# Altium footprint library Molex Microfit.PCBLIB: 196 footprints (part 5 of 13)
Each footprint in its own frame and in the unit in brackets; x right, y up, seen from the top. Pads: shape width x height; smd on the part's side, far side on the other; paste and mask are expansions set on the pad; w line width, h text height; cw(c..) or ccw(c..) is an arc to the next point about the centre after c.
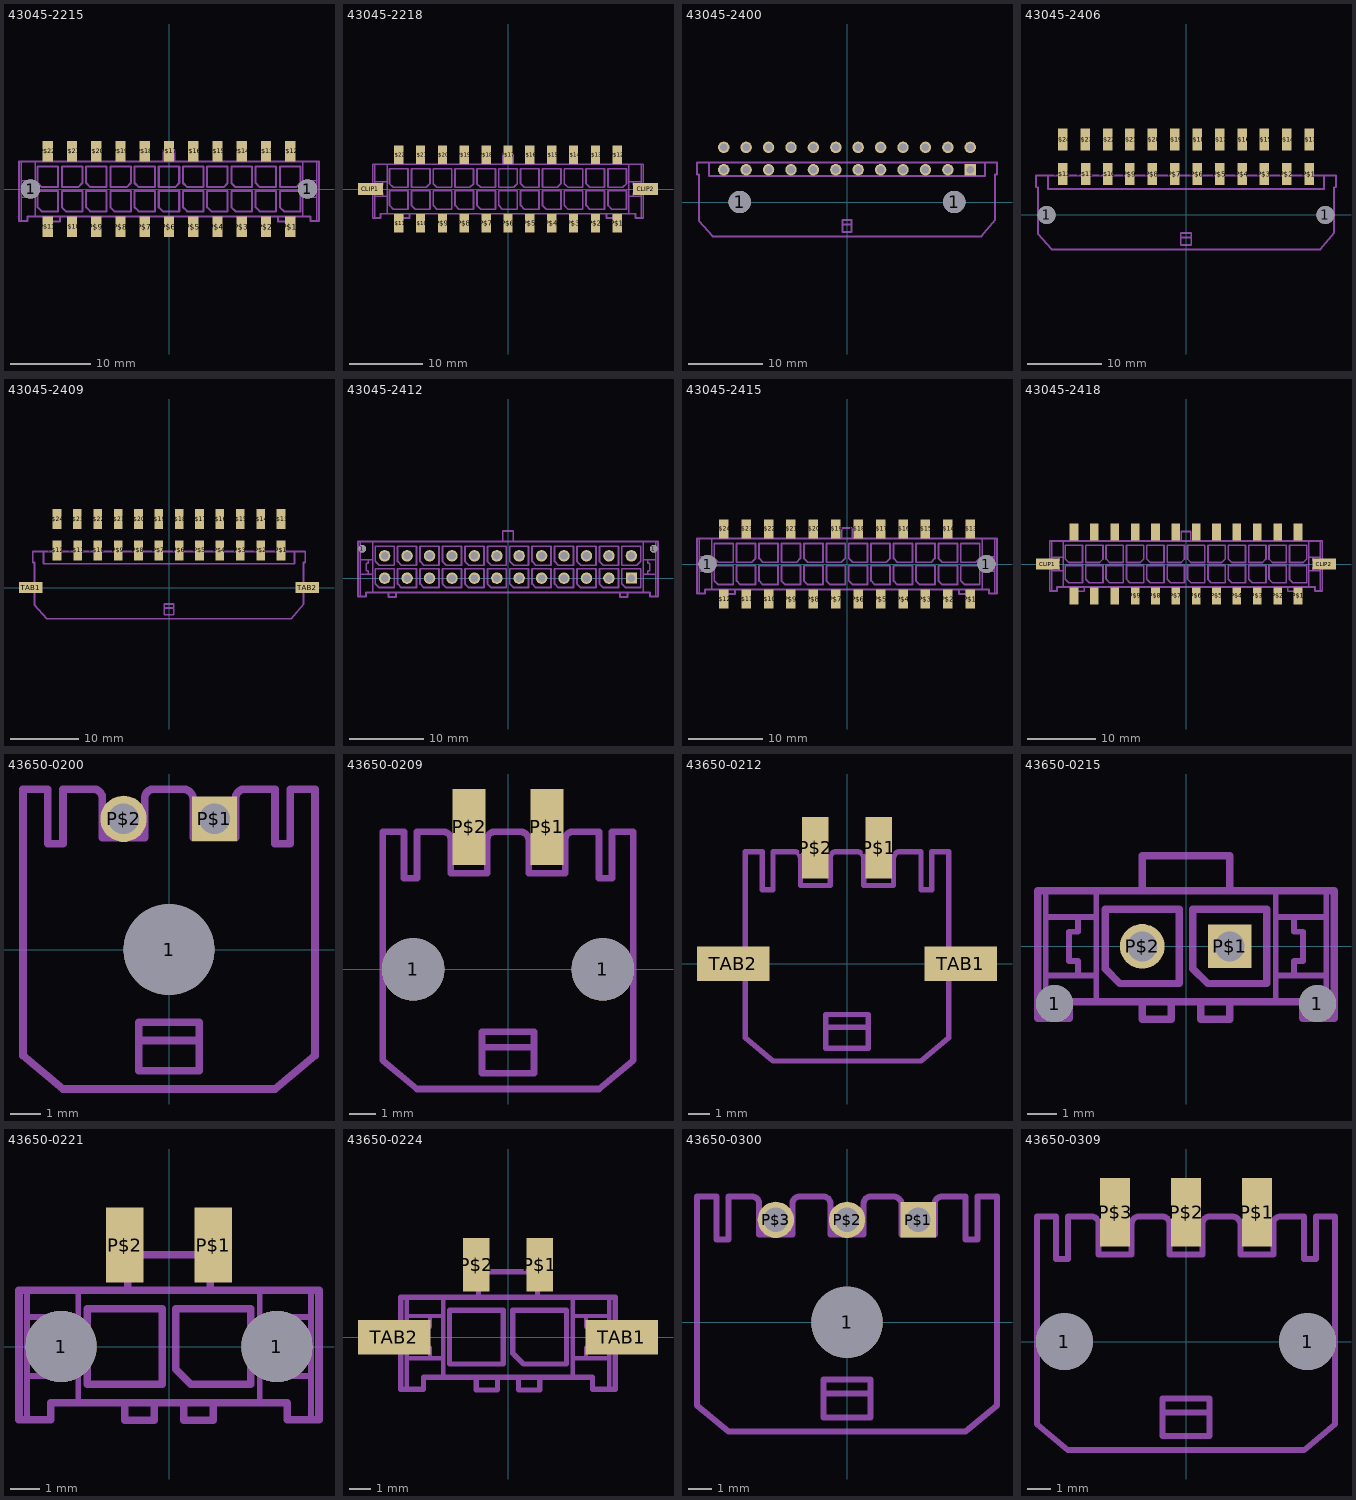
[diagram p4: the footprints below, top view; thin cyan lines are the x and y axes]

## 43045-2215 [mm]
pads (24):
  round 2.41 hole 2.41 unplated: 1(-17.15,0) 1(17.15,0)
  rect 1.27x2.54 smd: P$1(15,-4.7) P$2(12,-4.7) P$3(9,-4.7) P$4(6,-4.7) P$5(3,-4.7) P$6(0,-4.7) P$7(-3,-4.7) P$8(-6,-4.7) P$9(-9,-4.7) P$10(-12,-4.7) P$11(-15,-4.7) P$12(15,4.7) P$13(12,4.7) P$14(9,4.7) P$15(6,4.7) P$16(3,4.7) P$17(0,4.7) P$18(-3,4.7) P$19(-6,4.7) P$20(-9,4.7) P$21(-12,4.7) P$22(-15,4.7)
Mechanical 22:
  lines w0.2: -18.3,-3.97 -18.3,-1 ; -18.3,3.4 -18.3,1 ; -16.57,-3.4 -16.57,-1 ; -16.57,3.4 -16.57,1 ; 16.57,-3.4 16.57,-1 ; 16.57,3.4 16.57,1 ; 18.3,-3.97 18.3,-1 ; 18.3,3.4 18.3,1 ; -18.3,-1 -17.2,-1 ; -18.3,-1 -18.3,1 ; -18.3,1 -17.2,1 ; -17.2,-1 -17.2,-0.5 -17.5,-0.5 -17.5,0.5 -17.2,0.5 -17.2,1 ; -17.2,-1 -16.57,-1 ; -17.2,1 -16.57,1 ; -16.57,-1 -16.57,1 ; 16.57,-1 17.2,-1 ; 16.57,-1 16.57,1 ; 16.57,1 17.2,1 ; 17.2,-1 17.2,-0.5 17.5,-0.5 17.5,0.5 17.2,0.5 17.2,1 ; 17.2,-1 18.3,-1 ; 17.2,1 18.3,1 ; 18.3,-1 18.3,1
  lines w0.254: -14.5,-3.4 -14.5,-4 -13.5,-4 -13.5,-3.4 ; -14.5,-3.4 -16.57,-3.4 -17.5,-3.4 -17.5,-3.97 -18.3,-3.97 -18.575,-3.97 -18.575,3.4 -18.3,3.4 -16.57,3.4 -0.7,3.4 ; -14.5,-3.4 -13.5,-3.4 ; -13.5,-3.4 13.5,-3.4 ; -0.7,3.4 -0.7,4.8 0.7,4.8 0.7,3.4 ; -0.7,3.4 0.7,3.4 ; 0.7,3.4 16.57,3.4 18.3,3.4 18.575,3.4 18.575,-3.97 18.3,-3.97 17.5,-3.97 17.5,-3.4 16.57,-3.4 14.5,-3.4 ; 13.5,-3.4 13.5,-4 14.5,-4 14.5,-3.4 ; 13.5,-3.4 14.5,-3.4 ; -16.27,-2.262 -15.762,-2.77 -13.73,-2.77 -13.73,-0.23 -16.27,-0.23 -16.27,-2.262 ; -16.27,0.738 -15.762,0.23 -13.73,0.23 -13.73,2.77 -16.27,2.77 -16.27,0.738 ; -13.27,-2.262 -12.762,-2.77 -10.73,-2.77 -10.73,-0.23 -13.27,-0.23 -13.27,-2.262 ; -10.27,-2.262 -9.762,-2.77 -7.73,-2.77 -7.73,-0.23 -10.27,-0.23 -10.27,-2.262 ; -10.27,0.738 -9.762,0.23 -7.73,0.23 -7.73,2.77 -10.27,2.77 -10.27,0.738 ; -7.27,-2.262 -6.762,-2.77 -4.73,-2.77 -4.73,-0.23 -7.27,-0.23 -7.27,-2.262 ; -4.27,-2.262 -3.762,-2.77 -1.73,-2.77 -1.73,-0.23 -4.27,-0.23 -4.27,-2.262 ; -4.27,0.738 -3.762,0.23 -1.73,0.23 -1.73,2.77 -4.27,2.77 -4.27,0.738 ; -1.27,-2.262 -0.762,-2.77 1.27,-2.77 1.27,-0.23 -1.27,-0.23 -1.27,-2.262 ; 1.73,-2.262 2.238,-2.77 4.27,-2.77 4.27,-0.23 1.73,-0.23 1.73,-2.262 ; 1.73,0.738 2.238,0.23 4.27,0.23 4.27,2.77 1.73,2.77 1.73,0.738 ; 4.73,-2.262 5.238,-2.77 7.27,-2.77 7.27,-0.23 4.73,-0.23 4.73,-2.262 ; 7.73,-2.262 8.238,-2.77 10.27,-2.77 10.27,-0.23 7.73,-0.23 7.73,-2.262 ; 7.73,0.738 8.238,0.23 10.27,0.23 10.27,2.77 7.73,2.77 7.73,0.738 ; 10.73,-2.262 11.238,-2.77 13.27,-2.77 13.27,-0.23 10.73,-0.23 10.73,-2.262 ; 10.73,0.738 11.238,0.23 13.27,0.23 13.27,2.77 10.73,2.77 10.73,0.738 ; 13.73,-2.262 14.238,-2.77 16.27,-2.77 16.27,-0.23 13.73,-0.23 13.73,-2.262
Mechanical 23:
  lines w0.254: -13.27,0.23 -11.238,0.23 -10.73,0.738 -10.73,2.77 -13.27,2.77 -13.27,0.23 ; -7.27,0.23 -5.238,0.23 -4.73,0.738 -4.73,2.77 -7.27,2.77 -7.27,0.23 ; -1.27,0.23 0.762,0.23 1.27,0.738 1.27,2.77 -1.27,2.77 -1.27,0.23 ; 4.73,0.23 6.762,0.23 7.27,0.738 7.27,2.77 4.73,2.77 4.73,0.23 ; 13.73,0.23 15.762,0.23 16.27,0.738 16.27,2.77 13.73,2.77 13.73,0.23

## 43045-2218 [mm]
pads (24):
  rect 3.43x1.65 smd: CLIP1(-18.88,0) CLIP2(18.88,0)
  rect 1.27x2.54 smd: P$1(15,-4.7) P$2(12,-4.7) P$3(9,-4.7) P$4(6,-4.7) P$5(3,-4.7) P$6(0,-4.7) P$7(-3,-4.7) P$8(-6,-4.7) P$9(-9,-4.7) P$10(-12,-4.7) P$11(-15,-4.7) P$12(15,4.7) P$13(12,4.7) P$14(9,4.7) P$15(6,4.7) P$16(3,4.7) P$17(0,4.7) P$18(-3,4.7) P$19(-6,4.7) P$20(-9,4.7) P$21(-12,4.7) P$22(-15,4.7)
Mechanical 22:
  lines w0.2: -18.3,-3.97 -18.3,-1 ; -18.3,3.4 -18.3,1 ; -16.57,-3.4 -16.57,-1 ; -16.57,3.4 -16.57,1 ; 16.57,-3.4 16.57,-1 ; 16.57,3.4 16.57,1 ; 18.3,-3.97 18.3,-1 ; 18.3,3.4 18.3,1 ; -18.3,-1 -18.3,1 ; -18.3,-1 -17.2,-1 ; -18.3,1 -17.2,1 ; -17.2,-1 -16.57,-1 ; -17.2,-1 -17.2,-0.5 -17.5,-0.5 -17.5,0.5 -17.2,0.5 -17.2,1 ; -17.2,1 -16.57,1 ; -16.57,-1 -16.57,1 ; 16.57,-1 16.57,1 ; 16.57,-1 17.2,-1 ; 16.57,1 17.2,1 ; 17.2,-1 18.3,-1 ; 17.2,-1 17.2,-0.5 17.5,-0.5 17.5,0.5 17.2,0.5 17.2,1 ; 17.2,1 18.3,1 ; 18.3,-1 18.3,1
  lines w0.254: -14.5,-3.4 -13.5,-3.4 ; -14.5,-3.4 -16.57,-3.4 -17.5,-3.4 -17.5,-3.97 -18.3,-3.97 -18.575,-3.97 -18.575,3.4 -18.3,3.4 -16.57,3.4 -0.7,3.4 ; -14.5,-3.4 -14.5,-4 -13.5,-4 -13.5,-3.4 ; -13.5,-3.4 13.5,-3.4 ; -0.7,3.4 0.7,3.4 ; -0.7,3.4 -0.7,4.8 0.7,4.8 0.7,3.4 ; 0.7,3.4 16.57,3.4 18.3,3.4 18.575,3.4 18.575,-3.97 18.3,-3.97 17.5,-3.97 17.5,-3.4 16.57,-3.4 14.5,-3.4 ; 13.5,-3.4 14.5,-3.4 ; 13.5,-3.4 13.5,-4 14.5,-4 14.5,-3.4 ; -16.27,-2.262 -16.27,-0.23 -13.73,-0.23 -13.73,-2.77 -15.762,-2.77 -16.27,-2.262 ; -16.27,0.738 -16.27,2.77 -13.73,2.77 -13.73,0.23 -15.762,0.23 -16.27,0.738 ; -13.27,-2.262 -13.27,-0.23 -10.73,-0.23 -10.73,-2.77 -12.762,-2.77 -13.27,-2.262 ; -10.27,-2.262 -10.27,-0.23 -7.73,-0.23 -7.73,-2.77 -9.762,-2.77 -10.27,-2.262 ; -10.27,0.738 -10.27,2.77 -7.73,2.77 -7.73,0.23 -9.762,0.23 -10.27,0.738 ; -7.27,-2.262 -7.27,-0.23 -4.73,-0.23 -4.73,-2.77 -6.762,-2.77 -7.27,-2.262 ; -4.27,-2.262 -4.27,-0.23 -1.73,-0.23 -1.73,-2.77 -3.762,-2.77 -4.27,-2.262 ; -4.27,0.738 -4.27,2.77 -1.73,2.77 -1.73,0.23 -3.762,0.23 -4.27,0.738 ; -1.27,-2.262 -1.27,-0.23 1.27,-0.23 1.27,-2.77 -0.762,-2.77 -1.27,-2.262 ; 1.73,-2.262 1.73,-0.23 4.27,-0.23 4.27,-2.77 2.238,-2.77 1.73,-2.262 ; 1.73,0.738 1.73,2.77 4.27,2.77 4.27,0.23 2.238,0.23 1.73,0.738 ; 4.73,-2.262 4.73,-0.23 7.27,-0.23 7.27,-2.77 5.238,-2.77 4.73,-2.262 ; 7.73,-2.262 7.73,-0.23 10.27,-0.23 10.27,-2.77 8.238,-2.77 7.73,-2.262 ; 7.73,0.738 7.73,2.77 10.27,2.77 10.27,0.23 8.238,0.23 7.73,0.738 ; 10.73,-2.262 10.73,-0.23 13.27,-0.23 13.27,-2.77 11.238,-2.77 10.73,-2.262 ; 10.73,0.738 10.73,2.77 13.27,2.77 13.27,0.23 11.238,0.23 10.73,0.738 ; 13.73,-2.262 13.73,-0.23 16.27,-0.23 16.27,-2.77 14.238,-2.77 13.73,-2.262
Mechanical 23:
  lines w0.254: -13.27,0.23 -13.27,2.77 -10.73,2.77 -10.73,0.738 -11.238,0.23 -13.27,0.23 ; -7.27,0.23 -7.27,2.77 -4.73,2.77 -4.73,0.738 -5.238,0.23 -7.27,0.23 ; -1.27,0.23 -1.27,2.77 1.27,2.77 1.27,0.738 0.762,0.23 -1.27,0.23 ; 4.73,0.23 4.73,2.77 7.27,2.77 7.27,0.738 6.762,0.23 4.73,0.23 ; 13.73,0.23 13.73,2.77 16.27,2.77 16.27,0.738 15.762,0.23 13.73,0.23

## 43045-2400 [mm]
pads (26):
  round 3 hole 3 unplated: 1(-14.35,0) 1(14.35,0)
  rect 1.482x1.482 / inner rect 1.524x1.524 / far side rect 1.482x1.482 hole 1.02: P$1(16.5,4.32)
  round 1.53 / inner round 1.524 / far side round 1.53 hole 1.02: P$2(13.5,4.32) P$3(10.5,4.32) P$4(7.5,4.32) P$5(4.5,4.32) P$6(1.5,4.32) P$7(-1.5,4.32) P$8(-4.5,4.32) P$9(-7.5,4.32) P$10(-10.5,4.32) P$11(-13.5,4.32) P$12(-16.5,4.32) P$13(16.5,7.32) P$14(13.5,7.32) P$15(10.5,7.32) P$16(7.5,7.32) P$17(4.5,7.32) P$18(1.5,7.32) P$19(-1.5,7.32) P$20(-4.5,7.32) P$21(-7.5,7.32) P$22(-10.5,7.32) P$23(-13.5,7.32) P$24(-16.5,7.32)
Mechanical 22:
  lines w0.127: -4.83,5.31 -18.5,5.31 -4.825,5.31
  lines w0.254: -18.5,5.31 -20.08,5.31 -20.08,3.71 -19.825,3.71 -19.825,-2.5 -18,-4.6 18,-4.6 19.825,-2.4 19.825,3.71 20.08,3.71 20.08,5.31 18.5,5.31 ; -18.5,5.31 18.5,5.31 ; -18.5,5.31 -18.5,3.5 18.5,3.5 18.5,5.31 ; -0.6,-3 -0.6,-4 0.6,-4 0.6,-3 ; -0.6,-3 -0.6,-2.4 0.6,-2.4 0.6,-3 ; -0.6,-3 0.6,-3
3D body "430452400.stp": height 8.9, standoff -3.05, extent -20.075,-4.569 20.075,7.671

## 43045-2406 [mm]
pads (26):
  round 2.41 hole 2.41 unplated: 1(-18.65,0) 1(18.65,0)
  rect 1.27x2.92 smd: P$1(16.5,5.47) P$2(13.5,5.47) P$3(10.5,5.47) P$4(7.5,5.47) P$5(4.5,5.47) P$6(1.5,5.47) P$7(-1.5,5.47) P$8(-4.5,5.47) P$9(-7.5,5.47) P$10(-10.5,5.47) P$11(-13.44,5.47) P$12(-16.5,5.47) P$13(16.5,10.1) P$14(13.5,10.1) P$15(10.5,10.1) P$16(7.5,10.1) P$17(4.5,10.1) P$18(1.5,10.1) P$19(-1.5,10.1) P$20(-4.5,10.1) P$21(-7.5,10.1) P$22(-10.5,10.1) P$23(-13.5,10.1) P$24(-16.5,10.1)
Mechanical 22:
  lines w0.127: -4.83,5.31 -18.5,5.31 -4.825,5.31
  lines w0.254: -18.5,5.31 -20.08,5.31 -20.08,3.71 -19.825,3.71 -19.825,-2.5 -18,-4.6 18,-4.6 19.825,-2.4 19.825,3.71 20.08,3.71 20.08,5.31 18.5,5.31 ; -18.5,5.31 18.5,5.31 ; -18.5,5.31 -18.5,3.5 18.5,3.5 18.5,5.31 ; -0.7,-3 -0.7,-4 0.7,-4 0.7,-3 ; -0.7,-3 -0.7,-2.4 0.7,-2.4 0.7,-3 ; -0.7,-3 0.7,-3

## 43045-2409 [mm]
pads (26):
  rect 1.27x2.92 smd: P$1(16.5,5.47) P$2(13.5,5.47) P$3(10.5,5.47) P$4(7.5,5.47) P$5(4.5,5.47) P$6(1.5,5.47) P$7(-1.5,5.47) P$8(-4.5,5.47) P$9(-7.5,5.47) P$10(-10.5,5.47) P$11(-13.44,5.47) P$12(-16.5,5.47) P$13(16.5,10.1) P$14(13.5,10.1) P$15(10.5,10.1) P$16(7.5,10.1) P$17(4.5,10.1) P$18(1.5,10.1) P$19(-1.5,10.1) P$20(-4.5,10.1) P$21(-7.5,10.1) P$22(-10.5,10.1) P$23(-13.5,10.1) P$24(-16.5,10.1)
  rect 3.43x1.65 smd: TAB1(-20.38,0) TAB2(20.38,0)
Mechanical 22:
  lines w0.127: -4.83,5.31 -18.5,5.31 -4.825,5.31
  lines w0.254: -18.5,5.31 -20.08,5.31 -20.08,3.71 -19.825,3.71 -19.825,-2.5 -18,-4.6 18,-4.6 19.825,-2.4 19.825,3.71 20.08,3.71 20.08,5.31 18.5,5.31 ; -18.5,5.31 18.5,5.31 ; -18.5,5.31 -18.5,3.5 18.5,3.5 18.5,5.31 ; -0.7,-3 -0.7,-4 0.7,-4 0.7,-3 ; -0.7,-3 -0.7,-2.4 0.7,-2.4 0.7,-3 ; -0.7,-3 0.7,-3

## 43045-2412 [mm]
pads (26):
  round 1.02 hole 1.02 unplated: 1(-19.5,3.94) 1(19.5,3.94)
  rect 1.482x1.482 / inner rect 1.524x1.524 / far side rect 1.482x1.482 hole 1.02: P$1(16.5,0)
  round 1.53 / inner round 1.524 / far side round 1.53 hole 1.02: P$2(13.5,0) P$3(10.5,0) P$4(7.5,0) P$5(4.5,0) P$6(1.5,0) P$7(-1.5,0) P$8(-4.5,0) P$9(-7.5,0) P$10(-10.5,0) P$11(-13.5,0) P$12(-16.5,0) P$13(16.5,3) P$14(13.5,3) P$15(10.5,3) P$16(7.5,3) P$17(4.5,3) P$18(1.5,3) P$19(-1.5,3) P$20(-4.5,3) P$21(-7.5,3) P$22(-10.5,3) P$23(-13.5,3) P$24(-16.5,3)
Mechanical 22:
  drawing of 176 lines, arcs and shapes, not listed
Mechanical 23:
  lines w0.254: 15.23,1.73 17.262,1.73 17.77,2.238 17.77,4.27 15.23,4.27 15.23,1.73
3D body "430452412.stp": height 10.03, standoff -3.06, extent -20.075,-2.446 20.075,6.324

## 43045-2415 [mm]
pads (26):
  round 2.41 hole 2.41 unplated: 1(-18.65,0) 1(18.65,0)
  rect 1.27x2.54 smd: P$1(16.5,-4.7) P$2(13.5,-4.7) P$3(10.5,-4.7) P$4(7.5,-4.7) P$5(4.5,-4.7) P$6(1.5,-4.7) P$7(-1.5,-4.7) P$8(-4.5,-4.7) P$9(-7.5,-4.7) P$10(-10.5,-4.7) P$11(-13.5,-4.7) P$12(-16.5,-4.7) P$13(16.5,4.7) P$14(13.5,4.7) P$15(10.5,4.7) P$16(7.5,4.7) P$17(4.5,4.7) P$18(1.5,4.7) P$19(-1.5,4.7) P$20(-4.5,4.7) P$21(-7.5,4.7) P$22(-10.5,4.7) P$23(-13.5,4.7) P$24(-16.5,4.7)
Mechanical 22:
  drawing of 151 lines, arcs and shapes, not listed
Mechanical 23:
  lines w0.254: -14.77,0.23 -12.738,0.23 -12.23,0.738 -12.23,2.77 -14.77,2.77 -14.77,0.23 ; -8.77,0.23 -6.738,0.23 -6.23,0.738 -6.23,2.77 -8.77,2.77 -8.77,0.23 ; -2.77,0.23 -0.738,0.23 -0.23,0.738 -0.23,2.77 -2.77,2.77 -2.77,0.23 ; 3.23,0.23 5.262,0.23 5.77,0.738 5.77,2.77 3.23,2.77 3.23,0.23 ; 9.23,0.23 11.262,0.23 11.77,0.738 11.77,2.77 9.23,2.77 9.23,0.23 ; 15.23,0.23 17.262,0.23 17.77,0.738 17.77,2.77 15.23,2.77 15.23,0.23

## 43045-2418 [mm]
pads (26):
  rect 3.43x1.65 smd: CLIP1(-20.38,0) CLIP2(20.38,0)
  rect 1.27x2.54 smd: P$1(16.5,-4.7) P$2(13.5,-4.7) P$3(10.5,-4.7) P$4(7.5,-4.7) P$5(4.5,-4.7) P$6(1.5,-4.7) P$7(-1.5,-4.7) P$8(-4.5,-4.7) P$9(-7.5,-4.7) P$10(-10.5,-4.7) P$11(-13.5,-4.7) P$12(-16.5,-4.7) P$13(16.5,4.7) P$14(13.5,4.7) P$15(10.5,4.7) P$16(7.5,4.7) P$17(4.5,4.7) P$18(1.5,4.7) P$19(-1.5,4.7) P$20(-4.5,4.7) P$21(-7.5,4.7) P$22(-10.5,4.7) P$23(-13.5,4.7) P$24(-16.5,4.7)
Mechanical 22:
  drawing of 151 lines, arcs and shapes, not listed
Mechanical 23:
  lines w0.254: -14.77,0.23 -12.738,0.23 -12.23,0.738 -12.23,2.77 -14.77,2.77 -14.77,0.23 ; -8.77,0.23 -6.738,0.23 -6.23,0.738 -6.23,2.77 -8.77,2.77 -8.77,0.23 ; -2.77,0.23 -0.738,0.23 -0.23,0.738 -0.23,2.77 -2.77,2.77 -2.77,0.23 ; 3.23,0.23 5.262,0.23 5.77,0.738 5.77,2.77 3.23,2.77 3.23,0.23 ; 9.23,0.23 11.262,0.23 11.77,0.738 11.77,2.77 9.23,2.77 9.23,0.23 ; 15.23,0.23 17.262,0.23 17.77,0.738 17.77,2.77 15.23,2.77 15.23,0.23

## 43650-0200 [mm]
pads (3):
  round 3 hole 3 unplated: 1(0,0)
  rect 1.482x1.482 / inner rect 1.524x1.524 / far side rect 1.482x1.482 hole 1.02: P$1(1.5,4.32)
  round 1.53 / inner round 1.524 / far side round 1.53 hole 1.02: P$2(-1.5,4.32)
Mechanical 22:
  lines w0.254: -1,-3 -1,-4 1,-4 1,-3 ; -1,-3 -1,-2.4 1,-2.4 1,-3 ; -1,-3 1,-3 ; -4.82,-3.5 -4.82,5.3 -4,5.3 -4,3.5 -3.5,3.5 -3.5,5.3 -2.5,5.3 cw(c-2.5,5) -2.2,5 -2.2,3.7 -0.8,3.7 -0.8,5 cw(c-0.5,5) -0.5,5.3 0.5,5.3 cw(c0.45,4.95) 0.8,5 0.8,3.7 2.2,3.7 2.2,5 cw(c2.5,5) 2.5,5.3 3.5,5.3 3.5,3.5 4,3.5 4,5.3 4.82,5.3 4.82,-3.5 3.5,-4.6 -3.5,-4.6 -4.82,-3.5
3D body "436500200.stp": height 5.68, standoff -3.23, extent -4.825,-4.569 4.825,5.331

## 43650-0209 [mm]
pads (4):
  round 2.41 hole 2.41 unplated: 1(-3.65,0) 1(3.65,0)
  rect 1.27x2.92 smd: P$1(1.5,5.48) P$2(-1.5,5.48)
Mechanical 22:
  lines w0.254: -1,-3 -1,-4 1,-4 1,-3 ; -1,-3 -1,-2.4 1,-2.4 1,-3 ; -1,-3 1,-3 ; -4.82,-3.5 -4.82,5.3 -4,5.3 -4,3.5 -3.5,3.5 -3.5,5.3 -2.5,5.3 cw(c-2.5,5) -2.2,5 -2.2,3.7 -0.8,3.7 -0.8,5 cw(c-0.5,5) -0.5,5.3 0.5,5.3 cw(c0.45,4.95) 0.8,5 0.8,3.7 2.2,3.7 2.2,5 cw(c2.5,5) 2.5,5.3 3.5,5.3 3.5,3.5 4,3.5 4,5.3 4.82,5.3 4.82,-3.5 3.5,-4.6 -3.5,-4.6 -4.82,-3.5

## 43650-0212 [mm]
pads (4):
  rect 1.27x2.92 smd: P$1(1.5,5.48) P$2(-1.5,5.48)
  rect 3.43x1.65 smd: TAB1(5.38,0) TAB2(-5.38,0)
Mechanical 22:
  lines w0.254: -1,-3 1,-3 ; -1,-3 -1,-2.4 1,-2.4 1,-3 ; -1,-3 -1,-4 1,-4 1,-3 ; -4.82,-3.5 -3.5,-4.6 3.5,-4.6 4.82,-3.5 4.82,5.3 4,5.3 4,3.5 3.5,3.5 3.5,5.3 2.5,5.3 ccw(c2.5,5) 2.2,5 2.2,3.7 0.8,3.7 0.8,5 ccw(c0.45,4.95) 0.5,5.3 -0.5,5.3 ccw(c-0.5,5) -0.8,5 -0.8,3.7 -2.2,3.7 -2.2,5 ccw(c-2.5,5) -2.5,5.3 -3.5,5.3 -3.5,3.5 -4,3.5 -4,5.3 -4.82,5.3 -4.82,-3.5

## 43650-0215 [mm]
pads (4):
  round 1.27 hole 1.27 unplated: 1(-4.5,-1.96) 1(4.5,-1.96)
  rect 1.482x1.482 / inner rect 1.524x1.524 / far side rect 1.482x1.482 hole 1.02: P$1(1.5,0)
  round 1.53 / inner round 1.524 / far side round 1.53 hole 1.02: P$2(-1.5,0)
Mechanical 22:
  lines w0.2: -4.8,-2.47 -4.8,-1 ; -4.8,1.9 -4.8,1 ; -3.07,-1.9 -3.07,-1 ; -3.07,1.9 -3.07,1 ; 3.07,-1.9 3.07,-1 ; 3.07,1.9 3.07,1 ; 4.8,-2.47 4.8,-1 ; 4.8,1.9 4.8,1 ; -4.8,-1 -4.8,1 ; -4.8,-1 -3.7,-1 ; -4.8,1 -3.7,1 ; -3.7,-1 -3.07,-1 ; -3.7,-1 -3.7,-0.5 -4,-0.5 -4,0.5 -3.7,0.5 -3.7,1 ; -3.7,1 -3.07,1 ; -3.07,-1 -3.07,1 ; 3.07,-1 3.07,1 ; 3.07,-1 3.7,-1 ; 3.07,1 3.7,1 ; 3.7,-1 4.8,-1 ; 3.7,-1 3.7,-0.5 4,-0.5 4,0.5 3.7,0.5 3.7,1 ; 3.7,1 4.8,1 ; 4.8,-1 4.8,1
  lines w0.254: -1.5,-1.9 -0.5,-1.9 ; -1.5,-1.9 -3.07,-1.9 -4,-1.9 -4,-2.47 -4.8,-2.47 -5.075,-2.47 -5.075,1.9 -4.8,1.9 -3.07,1.9 -1.5,1.9 ; -1.5,-1.9 -1.5,-2.5 -0.5,-2.5 -0.5,-1.9 ; -1.5,1.9 1.5,1.9 ; -1.5,1.9 -1.5,3.1 1.5,3.1 1.5,1.9 ; -0.5,-1.9 0.5,-1.9 ; 0.5,-1.9 1.5,-1.9 ; 0.5,-1.9 0.5,-2.5 1.5,-2.5 1.5,-1.9 ; 1.5,-1.9 3.07,-1.9 4,-1.9 4,-2.47 4.8,-2.47 5.075,-2.47 5.075,1.9 4.8,1.9 3.07,1.9 1.5,1.9 ; -2.77,-0.762 -2.77,1.27 -0.23,1.27 -0.23,-1.27 -2.262,-1.27 -2.77,-0.762 ; 0.23,-0.762 0.23,1.27 2.77,1.27 2.77,-1.27 0.738,-1.27 0.23,-0.762
3D body "436500215.stp": height 10.03, standoff -3.05, extent -4.825,-2.47 4.825,3.135

## 43650-0221 [mm]
pads (4):
  round 2.41 hole 2.41 unplated: 1(-3.65,0) 1(3.65,0)
  rect 1.27x2.54 smd: P$1(1.5,3.43) P$2(-1.5,3.43)
Mechanical 22:
  lines w0.2: -4.8,-2.47 -4.8,-1 ; -4.8,1.9 -4.8,1 ; -3.07,-1.9 -3.07,-1 ; -3.07,1.9 -3.07,1 ; 3.07,-1.9 3.07,-1 ; 3.07,1.9 3.07,1 ; 4.8,-2.47 4.8,-1 ; 4.8,1.9 4.8,1 ; -4.8,-1 -3.7,-1 ; -4.8,-1 -4.8,1 ; -4.8,1 -3.7,1 ; -3.7,-1 -3.7,-0.5 -4,-0.5 -4,0.5 -3.7,0.5 -3.7,1 ; -3.7,-1 -3.07,-1 ; -3.7,1 -3.07,1 ; -3.07,-1 -3.07,1 ; 3.07,-1 3.7,-1 ; 3.07,-1 3.07,1 ; 3.07,1 3.7,1 ; 3.7,-1 3.7,-0.5 4,-0.5 4,0.5 3.7,0.5 3.7,1 ; 3.7,-1 4.8,-1 ; 3.7,1 4.8,1 ; 4.8,-1 4.8,1
  lines w0.254: -1.5,-1.9 -1.5,-2.5 -0.5,-2.5 -0.5,-1.9 ; -1.5,-1.9 -3.07,-1.9 -4,-1.9 -4,-2.47 -4.8,-2.47 -5.075,-2.47 -5.075,1.9 -4.8,1.9 -3.07,1.9 -1.4,1.9 ; -1.5,-1.9 -0.5,-1.9 ; -1.4,1.9 -1.4,3.1 1.4,3.1 1.4,1.9 ; -1.4,1.9 1.4,1.9 ; -0.5,-1.9 0.5,-1.9 ; 0.5,-1.9 0.5,-2.5 1.5,-2.5 1.5,-1.9 ; 0.5,-1.9 1.5,-1.9 ; 1.4,1.9 3.07,1.9 4.8,1.9 5.075,1.9 5.075,-2.47 4.8,-2.47 4,-2.47 4,-1.9 3.07,-1.9 1.5,-1.9 ; -2.77,-1.27 -2.77,1.27 -0.23,1.27 -0.23,-1.27 -2.77,-1.27 ; 0.23,-0.762 0.738,-1.27 2.77,-1.27 2.77,1.27 0.23,1.27 0.23,-0.762

## 43650-0224 [mm]
pads (4):
  rect 1.27x2.54 smd: P$1(1.5,3.43) P$2(-1.5,3.43)
  rect 3.43x1.65 smd: TAB1(5.39,0) TAB2(-5.39,0)
Mechanical 22:
  lines w0.2: -4.8,-2.47 -4.8,-1 ; -4.8,1.9 -4.8,1 ; -3.07,-1.9 -3.07,-1 ; -3.07,1.9 -3.07,1 ; 3.07,-1.9 3.07,-1 ; 3.07,1.9 3.07,1 ; 4.8,-2.47 4.8,-1 ; 4.8,1.9 4.8,1 ; -4.8,-1 -4.8,1 ; -4.8,-1 -3.7,-1 ; -4.8,1 -3.7,1 ; -3.7,-1 -3.07,-1 ; -3.7,-1 -3.7,-0.5 -4,-0.5 -4,0.5 -3.7,0.5 -3.7,1 ; -3.7,1 -3.07,1 ; -3.07,-1 -3.07,1 ; 3.07,-1 3.07,1 ; 3.07,-1 3.7,-1 ; 3.07,1 3.7,1 ; 3.7,-1 4.8,-1 ; 3.7,-1 3.7,-0.5 4,-0.5 4,0.5 3.7,0.5 3.7,1 ; 3.7,1 4.8,1 ; 4.8,-1 4.8,1
  lines w0.254: -1.5,-1.9 -0.5,-1.9 ; -1.5,-1.9 -3.07,-1.9 -4,-1.9 -4,-2.47 -4.8,-2.47 -5.075,-2.47 -5.075,1.9 -4.8,1.9 -3.07,1.9 -1.4,1.9 ; -1.5,-1.9 -1.5,-2.5 -0.5,-2.5 -0.5,-1.9 ; -1.4,1.9 1.4,1.9 ; -1.4,1.9 -1.4,3.1 1.4,3.1 1.4,1.9 ; -0.5,-1.9 0.5,-1.9 ; 0.5,-1.9 1.5,-1.9 ; 0.5,-1.9 0.5,-2.5 1.5,-2.5 1.5,-1.9 ; 1.4,1.9 3.07,1.9 4.8,1.9 5.075,1.9 5.075,-2.47 4.8,-2.47 4,-2.47 4,-1.9 3.07,-1.9 1.5,-1.9 ; -2.77,-1.27 -0.23,-1.27 -0.23,1.27 -2.77,1.27 -2.77,-1.27 ; 0.23,-0.762 0.23,1.27 2.77,1.27 2.77,-1.27 0.738,-1.27 0.23,-0.762

## 43650-0300 [mm]
pads (4):
  round 3 hole 3 unplated: 1(0,0)
  rect 1.482x1.482 / inner rect 1.524x1.524 / far side rect 1.482x1.482 hole 1.02: P$1(3,4.32)
  round 1.53 / inner round 1.524 / far side round 1.53 hole 1.02: P$2(0,4.32) P$3(-3,4.32)
Mechanical 22:
  lines w0.254: -1,-3 -1,-4 1,-4 1,-3 ; -1,-3 -1,-2.4 1,-2.4 1,-3 ; -1,-3 1,-3 ; -6.32,-3.5 -6.32,5.3 -5.5,5.3 -5.5,3.5 -5,3.5 -5,5.3 -4,5.3 cw(c-4,5) -3.7,5 -3.7,3.7 -2.3,3.7 -2.3,5 cw(c-2,5) -2,5.3 -1,5.3 cw(c-1,5) -0.7,5 -0.7,3.7 0.7,3.7 0.7,5 cw(c1,5) 1,5.3 2,5.3 cw(c1.95,4.95) 2.3,5 2.3,3.7 3.7,3.7 3.7,5 cw(c4,5) 4,5.3 5,5.3 5,3.5 5.5,3.5 5.5,5.3 6.32,5.3 6.32,-3.5 5,-4.6 -5,-4.6 -6.32,-3.5
3D body "436500300.stp": height 5.68, standoff -3.23, extent -6.325,-4.569 6.325,5.331

## 43650-0309 [mm]
pads (5):
  round 2.41 hole 2.41 unplated: 1(-5.15,0) 1(5.15,0)
  rect 1.27x2.92 smd: P$1(3,5.48) P$2(0,5.48) P$3(-3,5.48)
Mechanical 22:
  lines w0.254: -1,-3 1,-3 ; -1,-3 -1,-2.4 1,-2.4 1,-3 ; -1,-3 -1,-4 1,-4 1,-3 ; -6.32,-3.5 -5,-4.6 5,-4.6 6.32,-3.5 6.32,5.3 5.5,5.3 5.5,3.5 5,3.5 5,5.3 4,5.3 ccw(c4,5) 3.7,5 3.7,3.7 2.3,3.7 2.3,5 ccw(c1.95,4.95) 2,5.3 1,5.3 ccw(c1,5) 0.7,5 0.7,3.7 -0.7,3.7 -0.7,5 ccw(c-1,5) -1,5.3 -2,5.3 ccw(c-2,5) -2.3,5 -2.3,3.7 -3.7,3.7 -3.7,5 ccw(c-4,5) -4,5.3 -5,5.3 -5,3.5 -5.5,3.5 -5.5,5.3 -6.32,5.3 -6.32,-3.5